# Altium schematic symbol library Discrete_Capacitors_Electrolytic_GOST.SchLib: 2 symbols
Pins are listed as number, name and electrical type; pins without a type are passive.

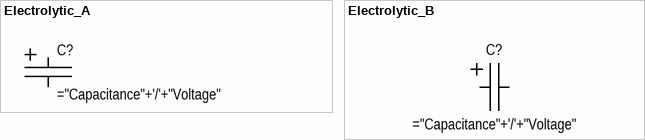
[diagram p0: symbols Electrolytic_A to Electrolytic_B]

## Electrolytic_A
designator C?
pins: 1, 2

## Electrolytic_B
designator C?
pins: 1, 2